# EAGLE library part USB2244 (library USB2244)
USB2244/USB2244I
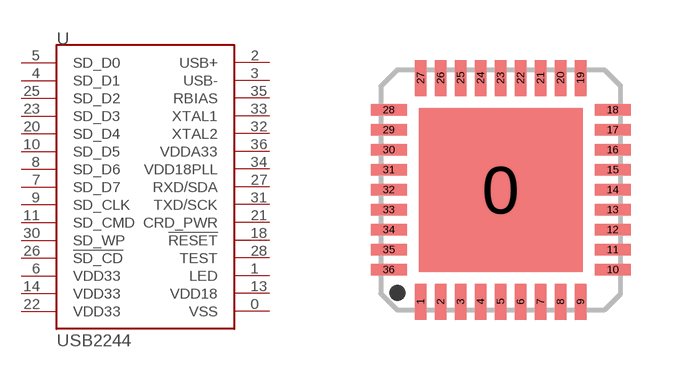
[diagram p0: symbol with the pads of QFN36; footprint QFN36]

Designator prefix U

## USB2244QFN  [QFN36]
0  VSS
1  LED
2  USB+
3  USB-
4  SD_D1
5  SD_D0
6  VDD33
7  SD_D7
8  SD_D6
9  SD_CLK  out
10  SD_D5
11  SD_CMD
13  VDD18
14  VDD33
18  !RESET  in
20  SD_D4
21  CRD_PWR
22  VDD33
23  SD_D3
25  SD_D2
26  !SD_CD
27  RXD/SDA
28  TEST  in
30  SD_WP  in
31  TXD/SCK
32  XTAL2  out
33  XTAL1  in
34  VDD18PLL
35  RBIAS
36  VDDA33

## Footprint QFN36 (pad centres in mm)
36-pin QFN
smd 4.1 x 4.1: 0 0,0
smd 0.28 x 0.9: 1 -2,-2.8; 2 -1.5,-2.8; 3 -1,-2.8; 4 -0.5,-2.8; 5 0,-2.8; 6 0.5,-2.8; 7 1,-2.8; 8 1.5,-2.8; 9 2,-2.8; 19 2,2.8; 20 1.5,2.8; 21 1,2.8; 22 0.5,2.8; 23 0,2.8; 24 -0.5,2.8; 25 -1,2.8; 26 -1.5,2.8; 27 -2,2.8
smd 0.9 x 0.28: 10 2.8,-2; 11 2.8,-1.5; 12 2.8,-1; 13 2.8,-0.5; 14 2.8,0; 15 2.8,0.5; 16 2.8,1; 17 2.8,1.5; 18 2.8,2; 28 -2.8,2; 29 -2.8,1.5; 30 -2.8,1; 31 -2.8,0.5; 32 -2.8,0; 33 -2.8,-0.5; 34 -2.8,-1; 35 -2.8,-1.5; 36 -2.8,-2